# Altium footprint library A79623-001.PcbLib: 1 footprints
Each footprint in its own frame and in the unit in brackets; x right, y up, seen from the top. Pads: shape width x height; smd on the part's side, far side on the other; paste and mask are expansions set on the pad; w line width, h text height; cw(c..) or ccw(c..) is an arc to the next point about the centre after c.
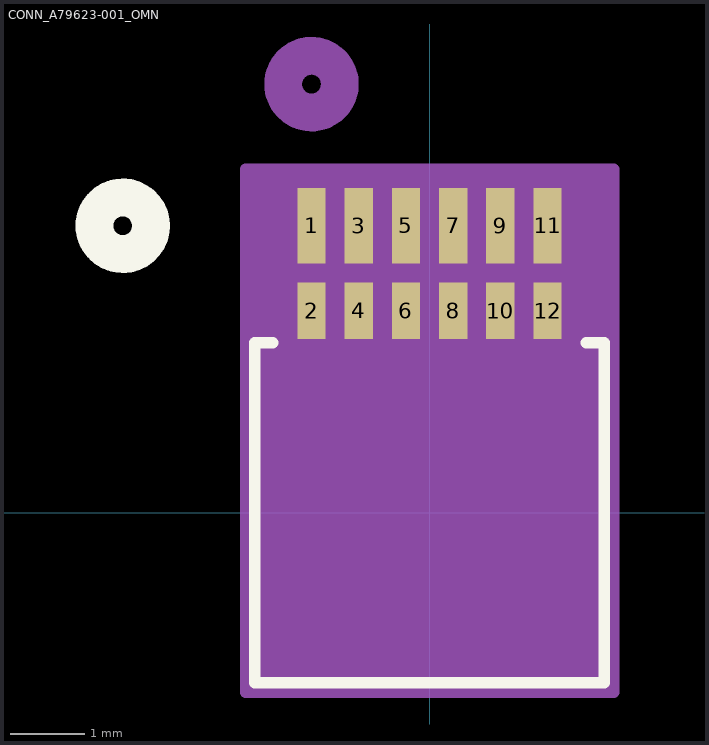
[diagram p0: the footprint, top view; thin cyan lines are the x and y axes]

## CONN_A79623-001_OMN [mil]
pads (12):
  rect 15x40 smd paste+0 mask+0: 1(-62.5,152) 3(-37.5,152) 5(-12.5,152) 7(12.5,152) 9(37.5,152) 11(62.5,152)
  rect 15x30 smd paste-15 mask-15: 2(-62.5,107) 4(-37.5,107) 6(-12.5,107) 8(12.5,107) 10(37.5,107) 12(62.5,107)
Top Overlay:
  circle w20: c-162.5,152 r15
  lines w6: -82.95,90 -92.5,90 -92.5,-90 92.5,-90 92.5,90 82.95,90
  text ".Designator" at -137.5,127 h50
Bottom Overlay:
  circle w20: c-162.5,152 r15
Mechanical 13:
  circle w20: c-62.5,227 r15
  lines w1: -87.5,-85 87.5,-85 87.5,85 -87.5,85 -87.5,-85
  text ".Designator" at -137.5,127 h50
Mechanical 15:
  region: 97.5,182 -97.5,182 -97.5,-95 97.5,-95
  lines w6: -97.5,-95 -97.5,182 97.5,182 97.5,-95 -97.5,-95